# Altium integrated library LED.IntLib: 1 symbol
Pins are listed as number, name and electrical type; pins without a type are passive.

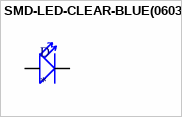
[diagram p0: symbol SMD-LED-CLEAR-BLUE(0603)]

## SMD-LED-CLEAR-BLUE(0603)
designator D
Blue LED Indication - Discrete 2.8V 0603 _1608 Metric_; MF: Everlight; MP: 19-217/BHC-ZL1M2RY/3T; Value: *; SnapEDA_Link: https://www.snapeda.com/parts/19-217/BHC-ZL1M2RY/3T/Everlight%20Electronics%20Co%20Ltd/view-part/105869/?ref=snap; Price: None; Availability: Unavailable; Package: 0603 Everlight
footprint LED-0603
pins: NEG, POS